# Altium footprint library Connector Micro SD.PcbLib: 1 footprints
Each footprint in its own frame and in the unit in brackets; x right, y up, seen from the top. Pads: shape width x height; smd on the part's side, far side on the other; paste and mask are expansions set on the pad; w line width, h text height; cw(c..) or ccw(c..) is an arc to the next point about the centre after c.
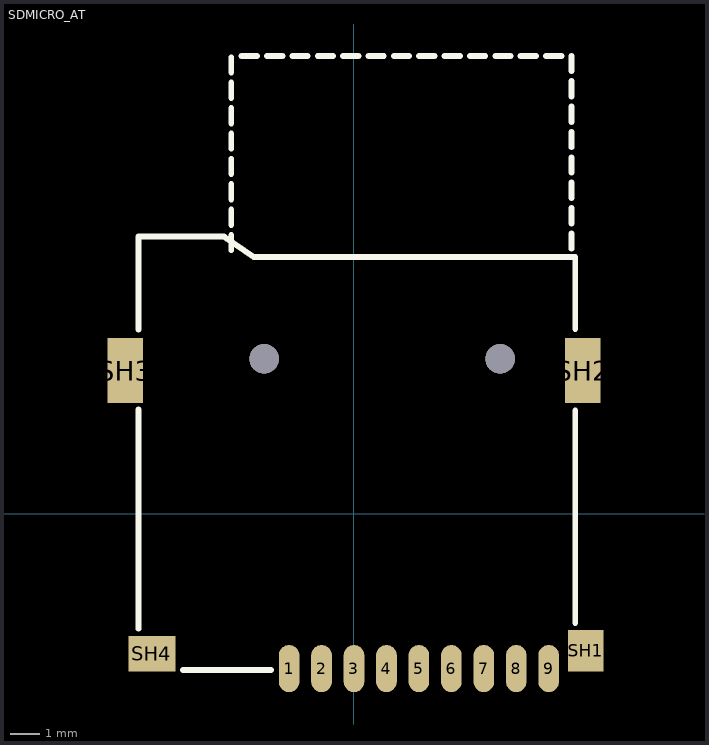
[diagram p0: the footprint, top view; thin cyan lines are the x and y axes]

## SDMICRO_AT [mm] "SDMICRO exist on Iran, Attend 112J-TDAR-R01, push-push"
height 1
pads (15):
  oval 0.7x1.6 smd: 1(-2.2,-5.25) 2(-1.1,-5.25) 3(0,-5.25) 4(1.1,-5.25) 5(2.2,-5.25) 6(3.3,-5.25) 7(4.4,-5.25) 8(5.5,-5.25) 9(6.6,-5.25)
  rect 1.2x1.4 smd: SH1(7.85,-4.65)
  rect 1.2x2.2 smd: SH2(7.75,4.85) SH3(-7.75,4.85)
  rect 1.6x1.2 smd: SH4(-6.85,-4.75)
  round 1 hole 1 unplated: ""(-3.05,5.25) ""(4.95,5.25)
Top Overlay:
  lines w0.2: -7.3,-3.9 -7.3,3.53 ; -7.3,6.25 -7.3,9.4 -4.409,9.4 -3.399,8.7 7.5,8.7 7.5,6.26 ; -5.8,-5.3 -2.82,-5.3 ; -4.16,8.93 -4.16,9.45 ; -4.16,9.79 -4.16,10.31 ; -4.16,10.65 -4.16,11.17 ; -4.16,11.51 -4.16,12.03 ; -4.16,12.37 -4.16,12.89 ; -4.16,13.23 -4.16,13.75 ; -4.16,14.09 -4.16,14.61 ; -4.16,14.95 -4.16,15.47 ; -3.81,15.52 -3.29,15.52 ; -2.95,15.52 -2.43,15.52 ; -2.09,15.52 -1.57,15.52 ; -1.23,15.52 -0.71,15.52 ; -0.37,15.52 0.15,15.52 ; 0.49,15.52 1.01,15.52 ; 1.35,15.52 1.87,15.52 ; 2.21,15.52 2.73,15.52 ; 3.07,15.52 3.59,15.52 ; 3.93,15.52 4.45,15.52 ; 4.79,15.52 5.31,15.52 ; 5.65,15.52 6.17,15.52 ; 6.51,15.52 7.03,15.52 ; 7.37,8.98 7.37,9.5 ; 7.37,9.84 7.37,10.36 ; 7.37,10.7 7.37,11.22 ; 7.37,11.56 7.37,12.08 ; 7.37,12.42 7.37,12.94 ; 7.37,13.28 7.37,13.8 ; 7.37,14.14 7.37,14.66 ; 7.37,15 7.37,15.52 ; 7.5,-3.7 7.5,3.5
3D body "User Library-Micro_SD.step": height 1.15, standoff 0.17, extent -3.976,-1.179 7.024,13.821
3D body "112J-TXAR-R_C_1.stp": height 1.85, standoff -0.6, extent -8,-5.702 8.1,9.3